# Altium footprint library IC_Vishay_SIP32431DR3-T1GE3_eec_0.PcbLib: 1 footprints
Each footprint in its own frame and in the unit in brackets; x right, y up, seen from the top. Pads: shape width x height; smd on the part's side, far side on the other; paste and mask are expansions set on the pad; w line width, h text height; cw(c..) or ccw(c..) is an arc to the next point about the centre after c.
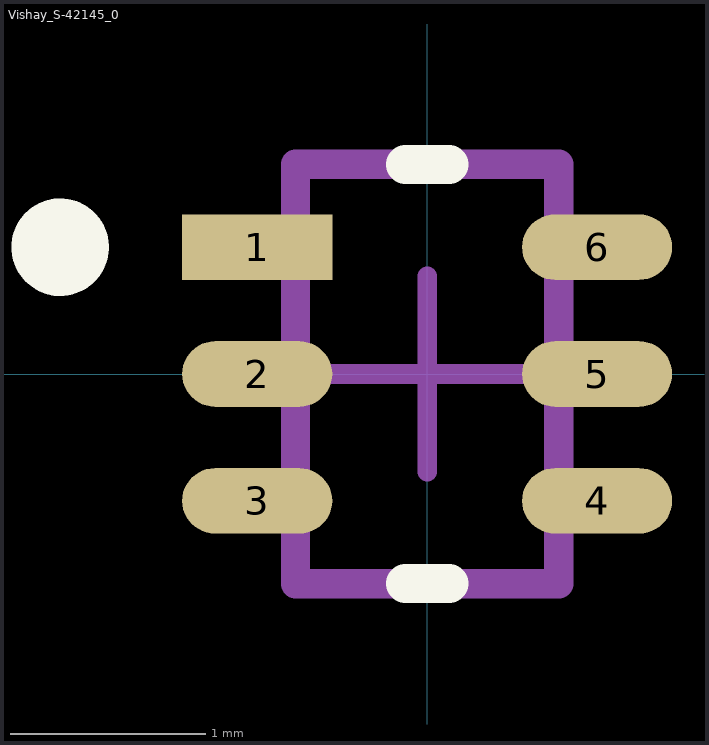
[diagram p0: the footprint, top view; thin cyan lines are the x and y axes]

## Vishay_S-42145_0 [mm]
pads (6):
  rect 0.77x0.336 smd paste+0: 1(-0.871,0.65)
  oval 0.77x0.336 smd paste+0: 2(-0.871,0) 3(-0.871,-0.65) 4(0.871,-0.65) 5(0.871,0) 6(0.871,0.65)
Top Overlay:
  circle w0.25: c-1.881,0.65 r0.125
  lines w0.2: -0.111,-1.075 0.111,-1.075 ; -0.111,1.075 0.111,1.075
Mechanical 12:
  lines w0.15: -0.675,-1.075 0.675,-1.075 0.675,1.075 -0.675,1.075 -0.675,-1.075
Mechanical 15:
  lines w0.1: -0.5,0 0.5,0 ; 0,-0.5 0,0.5
3D body "IC_Vishay_SIP32431DR3-T1GE3_eec.STEP": height 0.25, standoff 0, extent -1.356,-1.325 1.356,1.325